# Altium schematic symbol library CMod5_1.SCHLIB: 236 symbols (part 4 of 5)
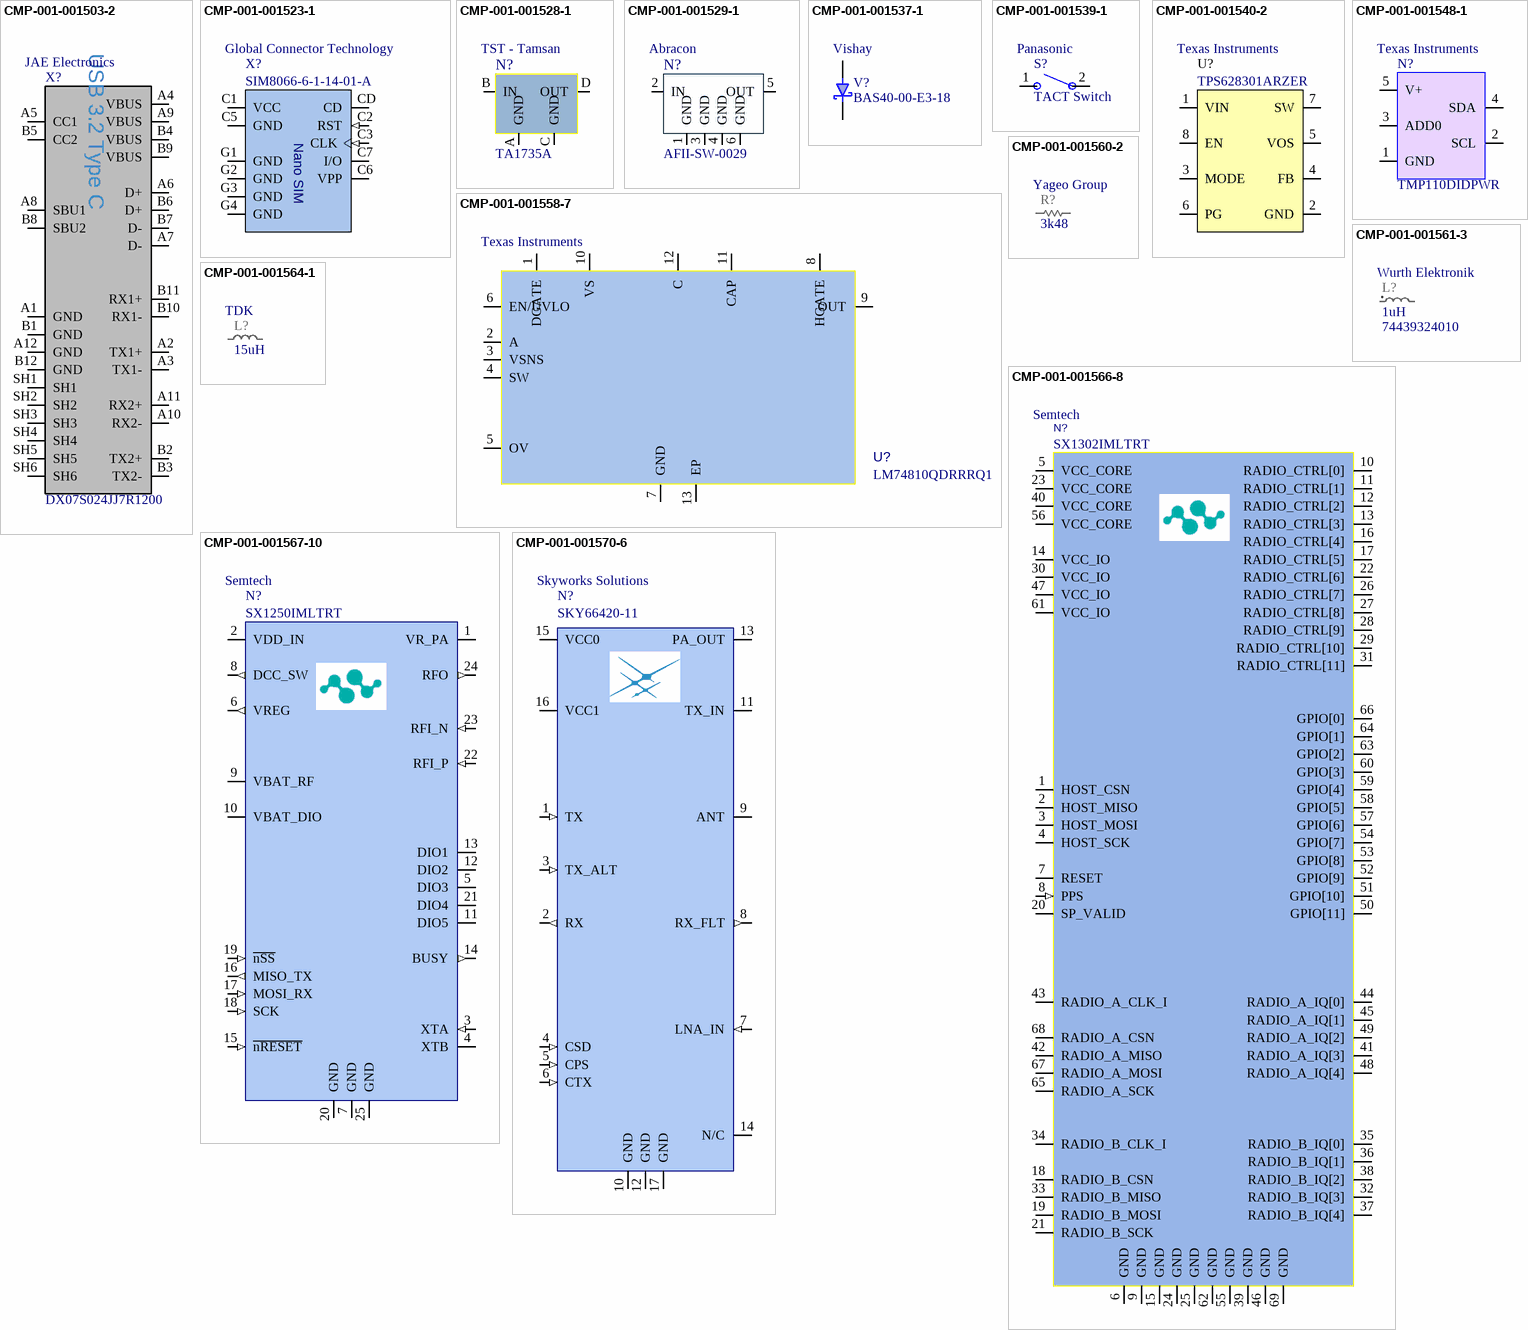
[diagram p15: symbols CMP-001-001503-2 to CMP-001-001570-6]

## CMP-001-001564-1
designator L?, comment value 15uH  Manufacturer: TDK  (hidden comment: IND_0805_15uH_MLZ2012M150WT000)
15µH Shielded Multilayer Inductor, Isat 120mA, Imax 250mA, 950mOhm, 0805; Tolerance: +/-20%; Sort order: 348; System: RLC; Dimensions WxLxH: 1.4x2.1x1.0mm; ComponentLink2Description: 2_Product page; ComponentLink1URL: https://product.tdk.com/en/system/files/dam/doc/product/inductor/inductor/smd/catalog/inductor_commercial_decoupling_mlz2012_en.pdf; Creation date: 20251006; ComponentLink1Description: 1_Datasheet; Part Number: MLZ2012M150WT000; Package: 0805; Operating temperature range: -55°C ~ 125°C; ClassName: BIG; ComponentLink3Description: 3_X-information; ComponentLink4Description: 4_X-information; Manufacturer Part Number: MLZ2012M150WT000; Component Type: Inductor
footprint IND_0805_UN1Q (Chip Inductor, 2.10x1.35mm, IPC High Density)
pins: 1, 2

## CMP-001-001566-8
designator N?, comment Part Number: SX1302IMLTRT  Manufacturer: Semtech  (hidden comment: SX1302)
SX1302 - LoRa Base Band Processor; System: RF; Sort order: 721; ClassName: BIG; ComponentLink3Description: 3_X-information; Operating temperature range: -40 ... +85C; Creation Date: 20251002; ComponentLink1URL: https://semtech.my.salesforce.com/sfc/p/#E0000000JelG/a/2R000000Hkyg/U8CIV3e9yI9T_aILFMxuzLNs_6_0Io1WIaksrNYyCMQ; ComponentLink2URL: https://www.semtech.com/products/wireless-rf/lora-core/sx1302; Manufacturer: SEMTECH; Package: VQFN-68; ComponentLink1Description: 1_Datasheet; ComponentLink4Description: 4_X-information; ComponentLink2Description: 2_Product page; Dimensions WxLxH: 7 mm x 7 mm x 0.75 mm; Manufacturer Part Number: SX1302IMLTRT; Component Type: RF IC
footprint SX1302_VQFN-68 (SX1302 - LoRa Base Band Processor, 7 mm x 7 mm x 0.75 mm)
pins: 1 HOST_CSN, 2 HOST_MISO, 3 HOST_MOSI, 4 HOST_SCK, 5 VCC_CORE (power), 6 GND (power), 7 RESET, 8 PPS (in), 9 GND, 10 RADIO_CTRL[0], 11 RADIO_CTRL[1], 12 RADIO_CTRL[2], 13 RADIO_CTRL[3], 14 VCC_IO (power), 15 GND (power), 16 RADIO_CTRL[4], 17 RADIO_CTRL[5], 18 RADIO_B_CSN, 19 RADIO_B_MOSI, 20 SP_VALID, 21 RADIO_B_SCK, 22 RADIO_CTRL[6], 23 VCC_CORE (power), 24 GND (power), 25 GND (power), 26 RADIO_CTRL[7], 27 RADIO_CTRL[8], 28 RADIO_CTRL[9], 29 RADIO_CTRL[10], 30 VCC_IO (power), 31 RADIO_CTRL[11], 32 RADIO_B_IQ[3], 33 RADIO_B_MISO, 34 RADIO_B_CLK_I, 35 RADIO_B_IQ[0], 36 RADIO_B_IQ[1], 37 RADIO_B_IQ[4], 38 RADIO_B_IQ[2], 39 GND (power), 40 VCC_CORE (power), 41 RADIO_A_IQ[3], 42 RADIO_A_MISO, 43 RADIO_A_CLK_I, 44 RADIO_A_IQ[0], 45 RADIO_A_IQ[1], 46 GND (power), 47 VCC_IO (power), 48 RADIO_A_IQ[4], 49 RADIO_A_IQ[2], 50 GPIO[11], 51 GPIO[10], 52 GPIO[9], 53 GPIO[8], 54 GPIO[7], 55 GND (power), 56 VCC_CORE (power), 57 GPIO[6], 58 GPIO[5], 59 GPIO[4], 60 GPIO[3], 61 VCC_IO (power), 62 GND (power), 63 GPIO[2], 64 GPIO[1], 65 RADIO_A_SCK, 66 GPIO[0], 67 RADIO_A_MOSI, 68 RADIO_A_CSN, 69 GND (power)

## CMP-001-001567-10
designator N?, comment Part Number: SX1250IMLTRT  Manufacturer: Semtech  (hidden comment: FEM-SX1250)
LoRa Core™ Multi-band Sub-GHz RF Front End; HasBeenBuilt: False; Sort order: 731; ComponentLink2URL: https://www.semtech.com/products/wireless-rf/lora-core/sx1250; Dimensions WxLxH: 4.0 x 4.0 x 0.9mm; Operating temperature range: -40C ... +85C; ComponentLink1Description: 1_Datasheet; System: RF; ComponentLink1URL: https://semtech.my.salesforce.com/sfc/p/#E0000000JelG/a/2R000000HTAF/wqCYqYPC0Z5rgGvER7_RtmlGeQhc31idv6bvSW4c_FQ; Manufacturer: SEMTECH; ComponentLink4Description: 4_X-information; ComponentLink3Description: 3_X-information; ComponentLink2Description: 2_Product page; Package: QFN-24; ClassName: BIG; Creation Date: 20251003; Manufacturer Part Number: SX1250IMLTRT; Component Type: RF IC
footprint FEM-SX12xx_QFN-24 (4.0 x 4.0 x 0.9mm)
pins: 1 VR_PA (power), 2 VDD_IN, 3 XTA (in), 4 XTB, 5 DIO3 (io), 6 VREG (out), 7 GND (power), 8 DCC_SW (out), 9 VBAT_RF (power), 10 VBAT_DIO (power), 11 DIO5 (io), 12 DIO2 (io), 13 DIO1 (io), 14 BUSY (out), 15 ~{nRESET} (in), 16 MISO_TX (out), 17 MOSI_RX (in), 18 SCK (in), 19 ~{nSS} (in), 20 GND (power), 21 DIO4 (io), 22 RFI_P (in), 23 RFI_N (in), 24 RFO (out), 25 GND (power)

## CMP-001-001570-6
designator N?, comment Part Number: SKY66420-11  Manufacturer: Skyworks Solutions  (hidden comment: FEM-SKY66420-11)
860MHz-930MHZ Front-End Module, +27dBM; Manufacturer: Skyworks; System: RF; Sort order: 731; ComponentLink1URL: https://d1ehax0mqsd4rz.cloudfront.net/-/media/SkyWorks/Documents/Products/2801-2900/SKY66420-11_204006I.pdf?rev=35057454984f4bd1903e4abc27f37b33; Creation Date: 251003; ComponentLink4Description: 4_X-information; Operating temperature range: -40C ... +85C; ComponentLink1Description: 1_Datasheet; ClassName: BIG; ComponentLink2Description: 2_Product page; ComponentLink2URL: https://www.skyworksinc.com/en/Products/Front-end-Modules/SKY66420-11; ComponentLink3Description: 3_X-information; Dimensions WxLxH: 3.0 x 3.0 x 0.75mm; Manufacturer Part Number: SKY66420-11; Component Type: RF Module
footprint FEM-SKY66420-11 (860MHz-930MHZ Front-End Module, +27dBM)
pins: 1 TX (in), 2 RX (out), 3 TX_ALT (in), 4 CSD (in), 5 CPS (in), 6 CTX (in), 7 LNA_IN (in), 8 RX_FLT (out), 9 ANT, 10 GND (power), 11 TX_IN, 12 GND (power), 13 PA_OUT, 14 N/C, 15 VCC0 (power), 16 VCC1 (power), 17 GND (power)

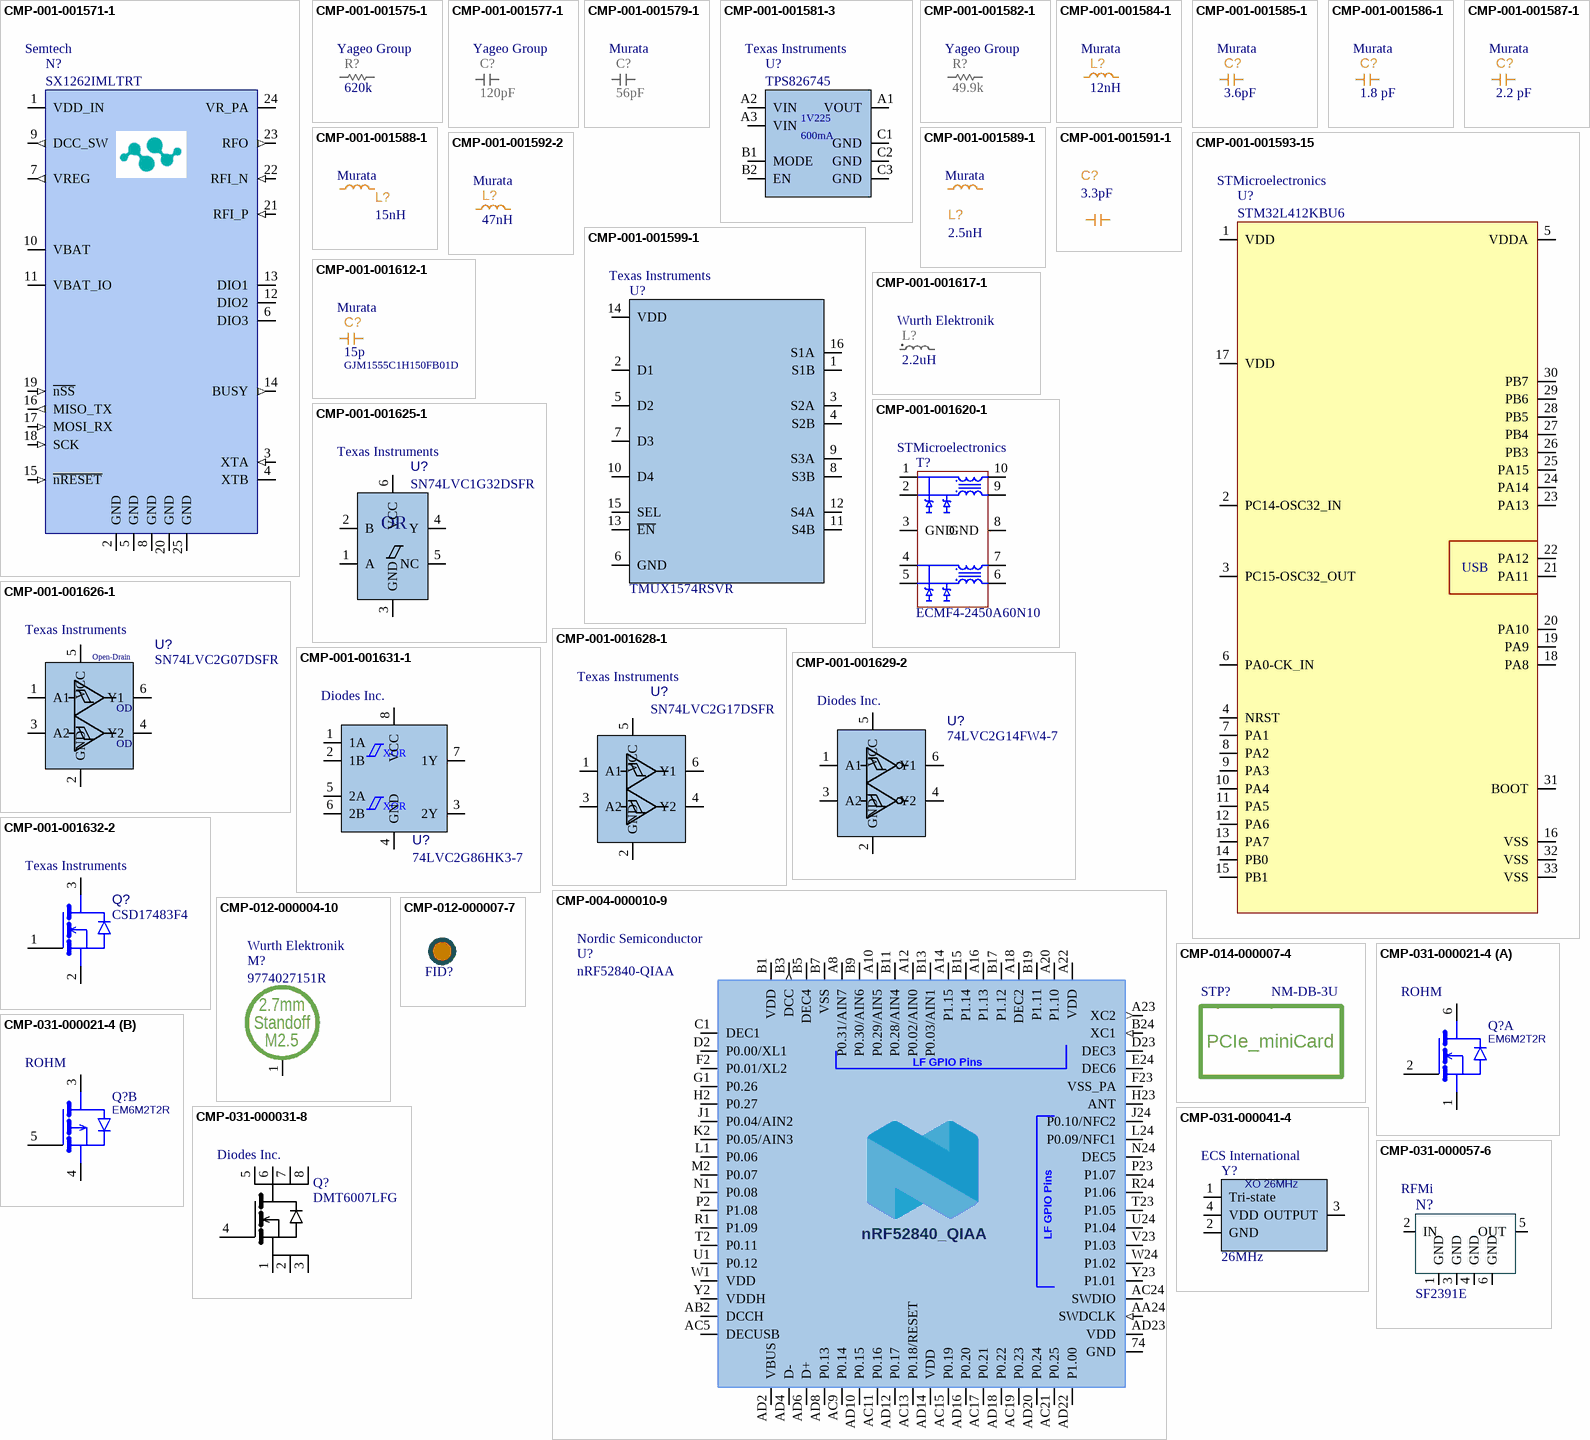
[diagram p10: symbols CMP-001-001571-1 to CMP-031-000057-6]

## CMP-001-001571-1
designator N?, comment Part Number: SX1262IMLTRT  Manufacturer: Semtech  (hidden comment: SX1262)
Sub-GHz RF RF transceiver, Low power, max +22dBm; HasBeenBuilt: False; Sort order: 731; ClassName: BIG; ComponentLink4Description: 4_X-information; ComponentLink1Description: 1_Datasheet; System: RF; ComponentLink3Description: 3_X-information; Dimensions WxLxH: 4.0 x 4.0 x 0.9mm; Manufacturer: SEMTECH; Operating temperature range: -40C ... +85C; Package: QFN-24; Creation Date: 20251007; ComponentLink2URL: https://www.semtech.com/products/wireless-rf/lora-connect/sx1261; ComponentLink2Description: 2_Product page; ComponentLink1URL: https://semtech.my.salesforce.com/sfc/p/#E0000000JelG/a/RQ000008n3pp/qXjWn19TZmb.1MgqPZ8Vrc5V7U.M_lOAIoTZHcEAeTI; Manufacturer Part Number: SX1262IMLTRT; Component Type: RF IC
footprint FEM-SX12xx_QFN-24 (4.0 x 4.0 x 0.9mm)
pins: 1 VDD_IN, 2 GND (power), 3 XTA (in), 4 XTB, 5 GND (power), 6 DIO3 (io), 7 VREG (out), 8 GND (power), 9 DCC_SW (out), 10 VBAT (power), 11 VBAT_IO (power), 12 DIO2 (io), 13 DIO1 (io), 14 BUSY (out), 15 ~{nRESET} (in), 16 MISO_TX (out), 17 MOSI_RX (in), 18 SCK (in), 19 ~{nSS} (in), 20 GND (power), 21 RFI_P (in), 22 RFI_N (in), 23 RFO (out), 24 VR_PA (power), 25 GND (power)

## CMP-001-001575-1
designator R?, comment value 620k  Manufacturer: Yageo Group  (hidden comment: RES_0201_620k)
RES; Manufacturer: YAGEO; Part Number: RC0201FR-07620KL; Sort order: 322; System: RLC; Tolerance: 1%; HasBeenBuilt: TBD; Alternative component: Allowed; Power Rating: 1/20W; ComponentLink1Description: 1_Datasheet; ClassName: SMALL; ComponentLink2Description: 2_Product page; Creation date: 20251021; Package: 0201; ComponentLink4Description: 4_X-information; ComponentLink3Description: 3_X-information; Manufacturer Part Number: RC0201FR-07620KL; Component Type: Resistor
footprint RES_0201_UN1Q (Chip Resistor, 0.6x0.3mm)
pins: 1, 2

## CMP-001-001577-1
designator C?, comment 120pF  Manufacturer: Yageo Group
CAP; Part Number: CC0201KRX7R9BB121; Manufacturer: YAGEO; HasBeenBuilt: TBD; Alternative component: Allowed; System: RLC; Voltage: 50V; Temperature characteristics: X7R; Tolerance: +/-10%; Sort order: 302; Dimensions WxLxH: 0.3 x 0.6 x 0.3; ComponentLink2Description: 2_Product page; Operating temperature range: -55 ... +125C; ComponentLink1Description: 1_Datasheet; ClassName: SMALL; ComponentLink3Description: 3_X-information; Package: 0201; ECCN: EAR99; ComponentLink4Description: 4_X-information; Value: 120pF; Creation date: 20251013; Manufacturer Part Number: CC0201KRX7R9BB121; Component Type: Capacitor
footprint CAP_0201_UN1Q (Chip Capacitor 0201)
pins: 1, 2

## CMP-001-001579-1
designator C?, comment 56pF  Manufacturer: Murata
CAP; Part Number: GRM0335C1H560JA01D; Tolerance: +/-5%; Temperature characteristics: C0G; Sort order: 302; System: RLC; Alternative component: Allowed; HasBeenBuilt: TBD; Voltage: 50V; ComponentLink4Description: 4_X-information; ClassName: SMALL; Package: 0201; ECCN: EAR99; ComponentLink2Description: 2_Product page; ComponentLink3Description: 3_X-information; ComponentLink1Description: 1_Datasheet; Creation date: 20251013; Value: 56pF; Manufacturer Part Number: GRM0335C1H560JA01D; Component Type: Capacitor
footprint CAP_0201_UN1Q (Chip Capacitor 0201)
pins: 1, 2

## CMP-001-001581-3
designator U?, comment TPS826745  Manufacturer: Texas Instruments
Step-Down Converter 1.225V 0.6A; Part Number: TPS826745SIPR; System: IC; Sort order: 451; Package: BGA8_SIP0008A_TI; ComponentLink1URL: https://www.ti.com/lit/gpn/tps82677; Dimensions WxLxH: 2.95 x 2.35 x 1.0 mm; ComponentLink1Description: 1_Datasheet; ComponentLink4Description: 4_X-information; RoHS: RoHS 3; Creation date: 20251014; ECCN: EAR99; Operating temperature range: -40 .... +85 °C; ComponentLink2Description: 2_Product page; ComponentLink3Description: 3_X-information; ComponentLink2URL: https://www.ti.com/product/TPS82677; Manufacturer Part Number: TPS826745SIPR; Component Type: Power Supply
footprint BGA8_SIP0008A_TI (BGA8 pin, Pitch 0.8)
pins: A1 VOUT, A2 VIN, A3 VIN, B1 MODE, B2 EN, C1 GND, C2 GND, C3 GND
text: 1V225; 600mA

## CMP-001-001582-1
designator R?, comment 49.9k  Manufacturer: Yageo Group
RES; Part Number: RC0201FR-0749K9L; Manufacturer: Yageo; Sort order: 322; Tolerance: 1%; Power Rating: 1/20W; HasBeenBuilt: TBD; System: RLC; ComponentLink2Description: 2_Product page; ClassName: SMALL; ECCN: EAR99; Package: 0201; Source: RLC_UN1Q.SchLib; ComponentLink1Description: 1_Datasheet; ComponentLink3Description: 3_X-information; Value: 49.9k; ComponentLink4Description: 4_X-information; Creation date: 20251014; Manufacturer Part Number: RC0201FR-0749K9L; Component Type: Resistor
footprint RES_0201_UN1Q (Chip Resistor, 0.6x0.3mm)
pins: 1, 2

## CMP-001-001584-1
designator L?, comment value 12nH  Manufacturer: Murata  (hidden comment: IND_0402_12n_WIREWOUND_RF_MATCHING)
IND_RF_MATCHING, WIREWOUND; Part Number: LQW15AN12NH00D; Tolerance: 3%; Sort order: 206; System: RLC; Remark: RF matching, use part number; HasBeenBuilt: TBD; Dimensions WxLxH: 0.6 x 1 x 0.6 mm; ComponentLink1Description: 1_Datasheet; ComponentLink4Description: 4_X-information; ComponentLink3Description: 3_X-information; Creation date: 20251014; Operating temperature range: -55 ... +125C; Source: RLC_UN1Q.SchLib; RoHS: RoHS3; ComponentLink2Description: 2_Product page; Package: 0402; ComponentLink1URL: https://www.murata.com/en-global/products/productdetail?partno=LQW15AN15NG00%23; ECCN: EAR99; ClassName: SMALL; Manufacturer Part Number: LQW15AN12NH00D; Component Type: Inductor
footprint IND_0402_UN1Q (Chip Resistor, 1.0x0.5mm)
pins: 1, 2

## CMP-001-001585-1
designator C?, comment value 3.6pF  Manufacturer: Murata  (hidden comment: CAP_0201_3p6_RF_MATCHING)
CAP_RF_MATCHING; Part Number: GJM0335C1H3R6WB01; Manufacturer Part Number: GJM0335C1H3R6WB01D; Tolerance: +/- 0.1 pF; Remark: RF matching, use part number; HasBeenBuilt: TBD; System: RLC; Sort order: 202; Temperature characteristics: C0G; Voltage: 50V; ComponentLink4Description: 4_X-information; Creation date: 20251014; ECCN: EAR99; Package: 0201; ComponentLink3Description: 3_X-information; RoHS: RoHS 3; Source: RLC_UN1Q.SchLib; ComponentLink2Description: 2_Product page; Operating temperature range: -55 ... +125C; ComponentLink1URL: https://pim.murata.com/en-global/pim/details/?partNum=GJM0335C1H3R9BB01%23; ComponentLink1Description: 1_Datasheet; ClassName: SMALL; Component Type: Capacitor
footprint CAP_0201_UN1Q (Chip Capacitor 0201)
pins: 1, 2

## CMP-001-001586-1
designator C?, comment value 1.8 pF  Manufacturer: Murata  (hidden comment: CAP_0201_1p8_GJM_RF_MATCHING)
CAP_RF_MATCHING; Part Number: GJM0335C1H1R8WB01; Manufacturer Part Number: GJM0335C1H1R8WB01D; Tolerance: +/-0.05pF; Remark: RF matching, use part number; System: RLC; Sort order: 202; Temperature characteristics: C0G; Voltage: 50V; ComponentLink4Description: 4_X-information; Creation date: 20251014; ECCN: EAR99; Package: 0201; ComponentLink3Description: 3_X-information; RoHS: RoHs 3; ComponentLink2Description: 2_Product page; Operating temperature range: -55 ... +125C; ComponentLink1URL: https://pim.murata.com/en-us/pim/details/?partNum=GJM0335C1H1R8WB01%23; ComponentLink1Description: 1_Datasheet; ClassName: SMALL; Component Type: Capacitor
footprint CAP_0201_UN1Q (Chip Capacitor 0201)
pins: 1, 2

## CMP-001-001587-1
designator C?, comment value 2.2 pF  Manufacturer: Murata  (hidden comment: CAP_0201_2p2_GJM_RF_MATCHING)
CAP_RF_MATCHING; Part Number: GJM0335C1H2R2WB01; Manufacturer Part Number: GJM0335C1H2R2WB01D; Tolerance: +/-0.05pF; Remark: RF matching, use part number; System: RLC; Sort order: 202; Temperature characteristics: C0G; Voltage: 50V; ComponentLink4Description: 4_X-information; Creation date: 20251014; ECCN: EAR99; Package: 0201; ComponentLink3Description: 3_X-information; RoHS: RoHs 3; ComponentLink2Description: 2_Product page; Operating temperature range: -55 ... +125C; ComponentLink1URL: https://pim.murata.com/en-eu/pim/details/?partNum=GJM0335C1H2R2WB01%23; ComponentLink1Description: 1_Datasheet; ClassName: SMALL; Component Type: Capacitor
footprint CAP_0201_UN1Q (Chip Capacitor 0201)
pins: 1, 2

## CMP-001-001588-1
designator L?, comment value 15nH  Manufacturer: Murata  (hidden comment: IND_0402_15n_WIREWOUND_RF_MATCHING)
IND_RF_MATCHING, WIREWOUND; Part Number: LQW15AN15NH00D; Tolerance: 3%; Sort order: 206; System: RLC; Remark: RF matching, use part number; HasBeenBuilt: TBD; Dimensions WxLxH: 0.6 x 1 x 0.6 mm; ComponentLink1Description: 1_Datasheet; ComponentLink4Description: 4_X-information; ComponentLink3Description: 3_X-information; Creation date: 20251014; Operating temperature range: -55 ... +125C; Source: RLC_UN1Q.SchLib; RoHS: RoHS3; ComponentLink2Description: 2_Product page; Package: 0402; ComponentLink1URL: https://www.murata.com/en-global/products/productdetail?partno=LQW15AN15NG00%23; ECCN: EAR99; ClassName: SMALL; Manufacturer Part Number: LQW15AN15NH00D; Component Type: Inductor
footprint IND_0402_UN1Q (Chip Resistor, 1.0x0.5mm)
pins: 1, 2

## CMP-001-001589-1
designator L?, comment value 2.5nH  Manufacturer: Murata  (hidden comment: IND_0402_2n5_WIREWOUND_RF_MATCHING)
IND_RF_MATCHING, WIREWOUND; Part Number: LQW15AN2N5C00D; Tolerance: +/- 0.2nH; Sort order: 206; System: RLC; Remark: RF matching, use part number; ComponentLink1Description: 1_Datasheet; ComponentLink4Description: 4_X-information; ComponentLink3Description: 3_X-information; Creation date: 20251014; Operating temperature range: -55 ... +125C; RoHS: RoHS3; ComponentLink2Description: 2_Product page; Package: 0402; ComponentLink1URL: https://www.mouser.fi/datasheet/2/281/1/JELF243A_9138-1699493.pdf; ClassName: SMALL; Manufacturer Part Number: LQW15AN2N5C00D; Component Type: Inductor
footprint IND_0402_UN1Q (Chip Resistor, 1.0x0.5mm)
pins: 1, 2

## CMP-001-001591-1
designator C?, comment value 3.3pF  (hidden comment: CAP_0201_3p3_RF_MATCHING)
CAP_RF_MATCHING; Manufacturer: Murata; Part Number: GJM0335C1H3R3WB01; Tolerance: +/- 0.1 pF; Remark: RF matching, use part number; HasBeenBuilt: TBD; System: RLC; Sort order: 202; Temperature characteristics: C0G; Voltage: 50V; ComponentLink4Description: 4_X-information; Creation date: 20251014; ECCN: EAR99; Package: 0201; ComponentLink3Description: 3_X-information; RoHS: RoHS 3; ComponentLink2Description: 2_Product page; Operating temperature range: -55 ... +125C; ComponentLink1URL: https://pim.murata.com/en-eu/pim/details/?partNum=GJM0335C1H3R3WB01%23; ComponentLink1Description: 1_Datasheet; ClassName: SMALL; Component Type: Capacitor
footprint CAP_0201_UN1Q (Chip Capacitor 0201)
pins: 1, 2

## CMP-001-001592-2
designator L?, comment value 47nH  Manufacturer: Murata  (hidden comment: IND_0402_47n_WIREWOUND_RF_MATCHING)
IND_RF_MATCHING, WIREWOUND; Part Number: LQW15AN47NJ00D; Tolerance: +/- 5%; Sort order: 206; System: RLC; Remark: RF matching, use part number; ComponentLink1Description: 1_Datasheet; ComponentLink4Description: 4_X-information; ComponentLink3Description: 3_X-information; Creation date: 20251014; Operating temperature range: -55 ... +125C; RoHS: RoHS3; ComponentLink2Description: 2_Product page; Package: 0402; ComponentLink1URL: https://pim.murata.com/en-eu/pim/details/?partNum=LQW15AN47NJ00%23; ECCN: EAR99; ClassName: SMALL; Manufacturer Part Number: LQW15AN47NJ00D; Component Type: Inductor
footprint IND_0402_UN1Q (Chip Resistor, 1.0x0.5mm)
pins: 1, 2

## CMP-001-001593-15
designator U?, comment STM32L412KBU6  Manufacturer: STMicroelectronics
ARM® Cortex®-M4 STM32L4 Microcontroller IC 32-Bit 80MHz 128KB (128K x 8) FLASH 32-UFQFPN (5x5); Manufacturer: ST Microelectronics; Sort order: 501; ComponentLink3Description: 3_X-information; ComponentLink1Description: 1_Datasheet; ComponentLink4Description: 4_X-information; ECCN: 3A991A2; ComponentLink2URL: https://www.st.com/en/microcontrollers-microprocessors/stm32l412kb.html; System: IC; ComponentLink1URL: https://www.st.com/resource/en/datasheet/stm32l412kb.pdf; Creation date: 20251015; RoHS: RoHS 3; ClassName: BIG; ComponentLink2Description: 2_Product page; Dimensions WxLxH: 5 x 5 x TBD; Package: UFQFPN32; Part Number: STM32L412KBU6; Manufacturer Part Number: STM32L412KBU6; Component Type: Processor
footprint STM32L_UFQFPN32_5x5
pins: 1 VDD, 2 PC14-OSC32_IN, 3 PC15-OSC32_OUT, 4 NRST, 5 VDDA, 6 PA0-CK_IN, 7 PA1, 8 PA2, 9 PA3, 10 PA4, 11 PA5, 12 PA6, 13 PA7, 14 PB0, 15 PB1, 16 VSS, 17 VDD, 18 PA8, 19 PA9, 20 PA10, 21 PA11, 22 PA12, 23 PA13, 24 PA14, 25 PA15, 26 PB3, 27 PB4, 28 PB5, 29 PB6, 30 PB7, 31 BOOT, 32 VSS, 33 VSS
text: USB

## CMP-001-001599-1
designator U?, comment Manufacturer: Texas Instruments  (hidden comment: TMUX1574RSVR)
4-Channel 2:1 SPDT MUX, BW 2GHz, SPI, UART, 1.5V to 5.5V; Manufacturer: TI; System: IC; Sort order: 501; Alternative component: TMUX1574T8RSVR; Part Number: TMUX1574RSVR; ComponentLink4Description: 4_X-information; Creation date: 20251017; Dimensions WxLxH: 2.6 x 1.8 x 0.55mm; ComponentLink3Description: 3_EVA kit; ComponentLink2URL: https://www.ti.com/product/TMUX1574?qgpn=tmux1574#order-quality; Package: UQFN-16; ComponentLink1Description: 1_Datasheet; ComponentLink2Description: 2_Product page; ComponentLink1URL: https://www.ti.com/lit/ds/symlink/tmux1574.pdf?ts=1760616995645&ref_url=https%253A%252F%252Fwww.ti.com%252Fproduct%252FTMUX1574; Operating temperature range: -40°C ~ 125°C (TA); Manufacturer Part Number: TMUX1574RSVR; Component Type: Logic
footprint UQFN-16_TMUX1574RSVR (UQFN-16)
pins: 1 S1B, 2 D1, 3 S2A, 4 S2B, 5 D2, 6 GND, 7 D3, 8 S3B, 9 S3A, 10 D4, 11 S4B, 12 S4A, 13 ~{EN}, 14 VDD, 15 SEL, 16 S1A

## CMP-001-001612-1
designator C?, comment value 15p  Part Number: GJM1555C1H150FB01D  Manufacturer: Murata  (hidden comment: CAP_0402_15p_RF_MATCHING)
CAP_RF_MATCHING; Sort order: 202; Tolerance: +/-1%; Temperature characteristics: C0G; System: RLC; HasBeenBuilt: TBD; Voltage: 50V; Remark: RF matching, use part number; ComponentLink4Description: 4_X-information; Creation date: 20251027; Package: 0402; ComponentLink2Description: 2_Product page; ComponentLink3Description: 3_X-information; ComponentLink1Description: 1_Datasheet; ClassName: SMALL; Manufacturer Part Number: GJM1555C1H150FB01D; Component Type: Capacitor
footprint CAP_0402_UN1Q (Chip Capacitor 0402)
pins: 1, 2

## CMP-001-001617-1
designator L?, comment value 2.2uH  Manufacturer: Wurth Elektronik  (hidden comment: IND_74479335329222_2u2)
IND, Low DCR, shielded.; Manufacturer: Wurth; Manufacturer Part Number: 74439334047; Sort order: 348; System: RLC; Package: 353220; Dimensions WxLxH: 3.5 x 3.2 x 2.0mm; Part Number: 74479335329222; ComponentLink1Description: 1_Datasheet; ComponentLink1URL: https://www.we-online.com/components/products/datasheet/74479335329222.pdf; ComponentLink2Description: 2_Product_page; ComponentLink2URL: https://www.we-online.com/en/components/products/WE-PMFI#74479335329222; Creation date: 20251029; Operating temperature range: -55°C ~ 150°C; ClassName: BIG; ComponentLink3Description: 3_X-information; ComponentLink4Description: 4_X-information; Component Type: Inductor
footprint IND_74479335329222_353220 (3.5 x 3.2 x 2.0mm)
pins: 1, 2

## CMP-001-001620-1
designator T?, comment Part Number: ECMF4-2450A60N10  Manufacturer: STMicroelectronics  (hidden comment: EMI_ESD_ECMF4-2450A60N10)
EMI Filter with ESD, 2x differential pair; System: Discrete; Sort order: 441; ComponentLink3Description: 3_X-information; Operating temperature range: -55°C ~ 125°C; Package: 10-XFDFN; ComponentLink1URL: https://www.st.com/resource/en/datasheet/ecmf4-2450a60n10.pdf; ComponentLink2Description: 2_Product page; Creation date: 20251103; ComponentLink2URL: https://www.st.com/en/protections-and-emi-filters/common-mode-filters-with-integrated-esd-protection-ecmf.html; ComponentLink1Description: 1_Datasheet; ComponentLink4Description: 4_X-information; Dimensions WxLxH: 2.20 x 1.35 x 0.50mm; Manufacturer Part Number: ECMF4-2450A60N10; Component Type: ESD & EMI
footprint ECMF4-2450A60N10
pins: 1 D1+, 2 D1-, 3 GND, 4 D2+, 5 D2-, 6 D2-_IC, 7 D2+_IC, 8 GND, 9 D1-_IC, 10 D1+_IC

## CMP-001-001625-1
designator U?, comment Manufacturer: Texas Instruments  (hidden comment: SN74LVC1G32DSFR)
Single 2-input OR gate , Schmitt-Trigger, CMOS.; Manufacturer: TI; Remark: Layout symbol = 74LVC1G32GS,132; Alternative component: 74LVC1G32GS,132; Sort order: 446; System: IC; ComponentLink2URL: https://www.ti.com/product/SN74LVC1G32?dcmp=dsproject&hqs=td&#doctype2; Dimensions WxLxH: 1.0 mm x 1.0 mm x 0.35mm; Operating temperature range: -40C ... +125C; ComponentLink1URL: https://www.ti.com/lit/ds/symlink/sn74lvc1g32.pdf?ts=1762178942135&ref_url=https%253A%252F%252Fwww.ti.com%252Fproduct%252FSN65DPHY440SS; Package: 6-SON (1x1), 6-XFDFN; ComponentLink1Description: 1_Datasheet; Part Number: SN74LVC1G32DSFR; ComponentLink2Description: 2_Product page; ComponentLink3Description: 3_X-information; ComponentLink4Description: 4_X-information; Creation date: 20251104; Manufacturer Part Number: SN74LVC1G32DSFR; Component Type: Logic
footprint XSON6_SOT1202_Nexperia
pins: 1 A, 2 B, 3 GND, 4 Y, 5 NC, 6 VCC (power)
text: OR

## CMP-001-001626-1
designator U?, comment Manufacturer: Texas Instruments  (hidden comment: SN74LVC2G07DSFR)
Dual buffer with open-drain outputs , Schmitt-Trigger, CMOS.; Manufacturer: TI; Alternative component: 74LVC2G07GS,132; Remark: Layout symbol = 74LVC2G07GS,132; Sort order: 446; System: IC; ComponentLink1Description: 1_Datasheet; ComponentLink1URL: https://www.ti.com/lit/ds/sces308l/sces308l.pdf; ComponentLink2Description: 2_Product page; ComponentLink2URL: https://www.ti.com/product/SN74LVC2G07?dcmp=dsproject&hqs=td&#doctype2; ComponentLink3Description: 3_X-information; ComponentLink4Description: 4_X-information; Creation date: 20251104; Dimensions WxLxH: 1.0 mm x 1.0 mm x 0.35mm; Operating temperature range: -40C ... +125C; Package: 6-SON (1x1), 6-XFDFN; Part Number: SN74LVC2G07DSFR; Manufacturer Part Number: SN74LVC2G07DSFR; Component Type: Logic
footprint XSON6_SOT1202_Nexperia
pins: 1 A1, 2 GND, 3 A2, 4 Y2, 5 VCC (power), 6 Y1
text: Open-Drain; OD

## CMP-001-001628-1
designator U?, comment Manufacturer: Texas Instruments  (hidden comment: SN74LVC2G17DSFR)
Non-inverting, Schmitt-Trigger, CMOS.; Manufacturer: TI; Alternative component: 74LVC2G17GS; Remark: Layout symbol = 74LVC2G17GS; Sort order: 446; System: IC; ComponentLink1Description: 1_Datasheet; ComponentLink1URL: https://www.ti.com/lit/ds/symlink/sn74lvc2g17.pdf?ts=1762256307204&ref_url=https%253A%252F%252Fwww.ti.com%252Fproduct%252FSN74LVC2G17%253Fdcmp%253Ddsproject%2526hqs%253Dtd%2526; ComponentLink2Description: 2_Product page; ComponentLink2URL: https://www.ti.com/product/SN74LVC2G17?dcmp=dsproject&hqs=td&#doctype2; ComponentLink3Description: 3_X-information; ComponentLink4Description: 4_X-information; Creation date: 20251104; Dimensions WxLxH: 1.0 mm x 1.0 mm x 0.35mm; Operating temperature range: -40C ... +125C; Package: 6-SON (1x1), 6-XFDFN; Part Number: SN74LVC2G17DSFR; Manufacturer Part Number: SN74LVC2G17DSFR; Component Type: Logic
footprint XSON6_SOT1202_Nexperia
pins: 1 A1, 2 GND, 3 A2, 4 Y2, 5 VCC (power), 6 Y1

## CMP-001-001629-2
designator U?, comment Manufacturer: Diodes Inc.  (hidden comment: 74LVC2G14FW4-7)
Inverter, Schmitt-Trigger, CMOS.; Alternative component: 74LVC2G14GS,132; Remark: Layout symbol = 74LVC2G14GS,132; Sort order: 446; System: IC; ComponentLink1Description: 1_Datasheet; ComponentLink1URL: https://www.diodes.com/assets/Datasheets/74LVC2G14.pdf; ComponentLink2Description: 2_Product page; ComponentLink2URL: https://www.diodes.com/part/view/74LVC2G14; ComponentLink3Description: 3_X-information; ComponentLink4Description: 4_X-information; Creation date: 20240306; Dimensions WxLxH: 1.0 x 1.0 x 0.35 mm; Operating temperature range: -40C ... +125C; Package: X2-DFN1010-6; Part Number: 74LVC2G14FW4-7; Manufacturer Part Number: 74LVC2G14FW4-7; Component Type: Logic
footprint XSON6_SOT1202_Nexperia
pins: 1 A1, 2 GND, 3 A2, 4 Y2, 5 VCC (power), 6 Y1

## CMP-001-001631-1
designator U?, comment Manufacturer: Diodes Inc.  (hidden comment: 74LVC2G86HK3-7)
XOR, Schmitt-Trigger, 2ch, CMOS; Sort order: 446; Alternative component: 74LVC2G86GS,115; Remark: Layout symbol = 74LVC2G86GS,115; System: IC; Part Number: 74LVC2G86HK3-7; ComponentLink2URL: https://www.diodes.com/part/view/74LVC2G86; ComponentLink2Description: 2_Product page; Operating temperature range: -40C ... +125C; ComponentLink3Description: 3_Package; Creation date: 20251104; ComponentLink4Description: 4_X-information; Package: X2-DFN1410-8; ComponentLink1Description: 1_Datasheet; ComponentLink1URL: https://www.diodes.com/assets/Datasheets/74LVC2G86.pdf; Dimensions WxLxH: 1.0 mm x 1.35 mm x 0.35mm; Manufacturer Part Number: 74LVC2G86HK3-7; Component Type: Logic
footprint XSON8_SOT1203_Nexperia
pins: 1 1A, 2 1B, 3 2Y, 4 GND, 5 2A, 6 2B, 7 1Y, 8 VCC (power)
text: XOR

## CMP-001-001632-2
designator Q?, comment Manufacturer: Texas Instruments  (hidden comment: CSD17483F4)
NMOS Transistor, 30V, 1.5A, 260mOhm; Manufacturer: TI; Sort order: 447; System: Discrete; Part Number: CSD17483F4; ComponentLink1Description: 1_Datasheet; ComponentLink1URL: https://www.ti.com/lit/ds/symlink/csd17483f4.pdf?ts=1762205176105; ComponentLink2Description: 2_Product page; ComponentLink2URL: https://www.ti.com/product/CSD17483F4?keyMatch=CSD17483F4&tisearch=universal_search; ComponentLink3Description: 3_X-information; ComponentLink4Description: 4_X-information; Creation date: 20251104; Dimensions WxLxH: 1.0 × 0.6 × 0.36 mm; Operating temperature range: -55 ... +150 °C; Package: 3-XFDFN, 3-PICOSTAR; ClassName: SMALL; Manufacturer Part Number: CSD17483F4; Component Type: Transistor
footprint 3-PICOSTAR_TI (1.0 × 0.6 × 0.36 mm ,3-XFDFN, 3-PICOSTAR)
pins: 1 G, 2 S, 3 D

## CMP-004-000010-9
designator U?, comment Manufacturer: Nordic Semiconductor  (hidden comment: nRF52840-QIAA)
Multi-protocol Bluetooth Low Energy, IEEE 802.15.4, ANT and 2.4GHz; Manufacturer Part Number: NRF52840-QIAA-R7; HasBeenBuilt: SleeveIO_01; Sort order: 721; System: RF; ClassName: BIG; Part Number: nRF52840-QIAA; ComponentLink1Description: 1_Datasheet; ComponentLink1URL: https://www.nordicsemi.com/Products/nRF52840; ComponentLink2Description: 2_Product page; ComponentLink3Description: 3_X-information; ComponentLink4Description: 4_X-information; Creation Date: 20210217; Package: AQFN-73; Source: RF_Components_UN1Q.SchLib; Design Item ID: nRF52840_QIAA; ECCN: 5A992.C; Component Type: RF IC
footprint NRF52840_AQFN50P_700X700X85 (AQFN50P 7x7 mm)
pins: 74 GND (power), A8 P0.31/AIN7 (io), A10 P0.29/AIN5 (io), A12 P0.02/AIN0 (io), A14 P1.15 (io), A16 P1.13 (io), A18 DEC2 (power), A20 P1.10 (io), A22 VDD (power), A23 XC2 (out), AA24 SWDCLK (in), AB2 DCCH (power), AC5 DECUSB (power), AC9 P0.14 (io), AC11 P0.16 (io), AC13 P0.18/RESET (io), AC15 P0.19 (io), AC17 P0.21 (io), AC19 P0.23 (io), AC21 P0.25 (io), AC24 SWDIO (io), AD2 VBUS (power), AD4 D- (io), AD6 D+ (io), AD8 P0.13 (io), AD10 P0.15 (io), AD12 P0.17 (io), AD14 VDD (power), AD16 P0.20 (io), AD18 P0.22 (io), AD20 P0.24 (io), AD22 P1.00 (io), AD23 VDD (power), B1 VDD (power), B3 DCC (out), B5 DEC4 (power), B7 VSS (power), B9 P0.30/AIN6 (io), B11 P0.28/AIN4 (io), B13 P0.03/AIN1 (io), B15 P1.14 (io), B17 P1.12 (io), B19 P1.11 (io), B24 XC1 (in), C1 DEC1 (power), D2 P0.00/XL1 (io), D23 DEC3 (power), E24 DEC6 (power), F2 P0.01/XL2 (io), F23 VSS_PA (power), G1 P0.26 (io), H2 P0.27 (io), H23 ANT (io), J1 P0.04/AIN2 (io), J24 P0.10/NFC2 (io), K2 P0.05/AIN3 (io), L1 P0.06 (io), L24 P0.09/NFC1 (io), M2 P0.07 (io), N1 P0.08 (io), N24 DEC5 (power), P2 P1.08 (io), P23 P1.07 (io), R1 P1.09 (io), R24 P1.06 (io), T2 P0.11 (io), T23 P1.05 (io), U1 P0.12 (io), U24 P1.04 (io), V23 P1.03 (io), W1 VDD (power), W24 P1.02 (io), Y2 VDDH (power), Y23 P1.01 (io)
text: LF GPIO Pins

## CMP-012-000004-10
designator M?, comment Part Number: 9774027151R  Manufacturer: Wurth Elektronik  (hidden comment: Standoff_2_7mm_M25_WURTH)
Standoff 2.7 mm M2.5 Hole 3.7 mm; Manufacturer: WURTH; Sort order: 101; HasBeenBuilt: Saluki3; ComponentLink1Description: 1_Datasheet; ComponentLink1URL: https://www.we-online.com/components/products/datasheet/9774027151R.pdf; Creation date: 20230621; Dimensions WxLxH: M2.5 5.1x4.0mm; ComponentLink2Description: 2_Product page; ComponentLink2URL: https://www.we-online.com/catalog/en/SMSI_SMT_STEEL_SPACER_M2_5_THREAD_INTERNAL; ComponentLink3Description: 3_X-information; ComponentLink4Description: 4_X-information; System: Standoff; ECCN: EAR99; Source: EMECH_UN1Q.SchLib; Design Item ID: Standoff_2_7mm_M25_WURTH; RoHS: RoHS3 with ex; Manufacturer Part Number: 9774027151R; Component Type: Standoff
footprint Standoff_2_7mm_M25_WURTH (Standoff 2.7 mm M2.5  Hole 3.7 mm)
pins: 1
text: 2.7mm; M2.5

## CMP-012-000007-7
designator FID?, comment Fiducial  (value not drawn)
Fiducial 0.98 mm; HasBeenBuilt: True; System: EMECH; Sort order: -; ComponentLink1Description: 1_Datasheet; ComponentLink2Description: 2_Product page; ComponentLink3Description: 3_X-information; Creation date: 20200101; ComponentLink4Description: 3_X-information; Part Number: Fiducial; Source: EMECH_UN1Q.SchLib; Design Item ID: Fiducial; Component Type: EMECH
footprint Fiducial (Fiducial 0.98 mm)

## CMP-014-000007-4
designator STP?, comment Part Number: NM-DB-3U  (hidden comment: PCIe_miniCard)  (no BOM)
Manufacturer: Doodle Labs; Sort order: 999; Remark: STEP; System: EMECH; ComponentLink1Description: 1_Datasheet; ComponentLink1URL: https://doodlelabs.com/wp-content/uploads/Doodle-Labs-NM-DB-3-Data-Sheet.pdf; ComponentLink2Description: 2_Product page; ComponentLink3Description: 3_X-information; ComponentLink4Description: 4_X-information; Design Item ID: PCIe_miniCard; Source: EMECH_UN1Q.SchLib; ClassName: STEP; Component Type: STEP Model
footprint PCIe_miniCard

## CMP-031-000021-4
designator Q?, comment Manufacturer: ROHM  (hidden comment: EM6M2T2R)
Dual Nch + Pch MOSFET 20V 200mA; Sort order: 501; HasBeenBuilt: CCB30_1; Remark: MFG package EMT6; System: IC; Part Number: EM6M2T2R; ClassName: BIG; ComponentLink1Description: 1_Datasheet; ComponentLink1URL: https://fscdn.rohm.com/en/products/databook/datasheet/discrete/transistor/mosfet/em6m2t2r-e.pdf; ComponentLink2Description: 2_Product page; ComponentLink3Description: 3_X-information; ComponentLink4Description: 4_X-information; Creation date: 20230614; Dimensions WxLxH: 1.6 x 1.6 x 0.5mm; Operating temperature range: -55 ... +155 °C; Package: SOT-563, SOT-666; Source: UUDET_KOMPONENTIT.SchLib; Manufacturer Part Number: EM6M2T2R; Component Type: Transistor
footprint SOT-563 (SOT-563, SOT-666, EMT6)
part A pins: 1 S, 2 G, 6 D
part B pins: 3 D, 4 S, 5 G

## CMP-031-000031-8
designator Q?, comment Manufacturer: Diodes Inc.  (hidden comment: DMT6007LFG)
60V 70A N-channel enhancement mode MOSFET; Manufacturer: Diodes Inc; Manufacturer Part Number: DMT6007LFG-7; System: Discrete; HasBeenBuilt: Saluki3_HW_SB_2; Sort order: 447; ComponentLink4Description: 4_X-information; Source: UUDET_KOMPONENTIT.SchLib; Creation date: 20230516; ComponentLink3Description: 3_X-information; ClassName: SMALL; ECCN: EAR99; Operating temperature range: -55 ... +150 °C; ComponentLink2URL: https://www.diodes.com/assets/Package-Files/PowerDI3333-8.pdf; ComponentLink2Description: 3_X-information; ComponentLink1URL: https://www.diodes.com/assets/Datasheets/DMT6007LFG.pdf; Part Number: DMT6007LFG; RoHS: RoHS3 with exemption; Voltage: 60V; Package: POWERDI3333-8; Dimensions WxLxH: 3.3 x 3.3 x 0.8 mm; ComponentLink1Description: 1_Datasheet; Component Type: Transistor
footprint POWERDI3333-8 (POWER(R)DI3333-8 (Diodes Inc))
pins: 1 S, 2 S, 3 S, 4 G, 5 D, 6 D, 7 D, 8 D

## CMP-031-000041-4
designator Y?, comment value 26MHz  Manufacturer: ECS International  (hidden comment: XO_26M_ECS-2016MV-260-CN)
Oscillator XO 26MHz ±25ppm 15pF; Manufacturer: ECS; Manufacturer Part Number: ECS-2016MV-260-CN-TR; Tolerance: +/-25ppm; Sort order: 455; System: Discrete; Operating temperature range: -40 ... +85C; Dimensions WxLxH: 2 x 1.6mm x 0.85mm; Part Number: ECS-2016MV-260-CN; ComponentLink1Description: 1_Datasheet; ComponentLink1URL: https://ecsxtal.com/store/pdf/ECS-2016MV.pdf; Creation date: 15042024; Design Item ID: XO_26M_ECS-2016MV-260-CN; Source: UUDET_KOMPONENTIT.SchLib; ComponentLink2Description: 2_Product page; ComponentLink3Description: 3_X-information; ComponentLink4Description: 4_X-information; Component Type: Timing
footprint XTAL_2016_UN1Q (Murata XTAL 2.0 x 1.6mm)
pins: 1 Tri-state, 2 GND, 3 OUTPUT, 4 VDD (power)
text: XO 26MHz

## CMP-031-000057-6
designator N?, comment Manufacturer: RFMi  (hidden comment: SF2391E)
897.5 MHz SAW Filter, IL 2.5 dB; Sort order: 701; System: RF; HasBeenBuilt: MiniWing_01; Design Item ID: SF2391E; Part Number: SF2391E; ComponentLink1URL: https://www.rfmi.co/pdf/datasheet/SF2391E.pdf; Source: UUDET_KOMPONENTIT.SchLib; Operating temperature range: -20 ... +70C; ComponentLink3Description: 3_X-information; Package: 3030; ComponentLink4Description: 4_X-information; ComponentLink2Description: 2_Product page; ComponentLink1Description: 1_Datasheet; Dimensions WxLxH: 3 x 3 x 1.4mm; Creation date: 20231116; Manufacturer Part Number: SF2391E; Component Type: RF Discrete
footprint SM3030_6PIN (3x3mm 6 pin)
pins: 1 GND, 2 IN "50 ohm terminal", 3 GND, 4 GND, 5 OUT "50 ohm terminal", 6 GND

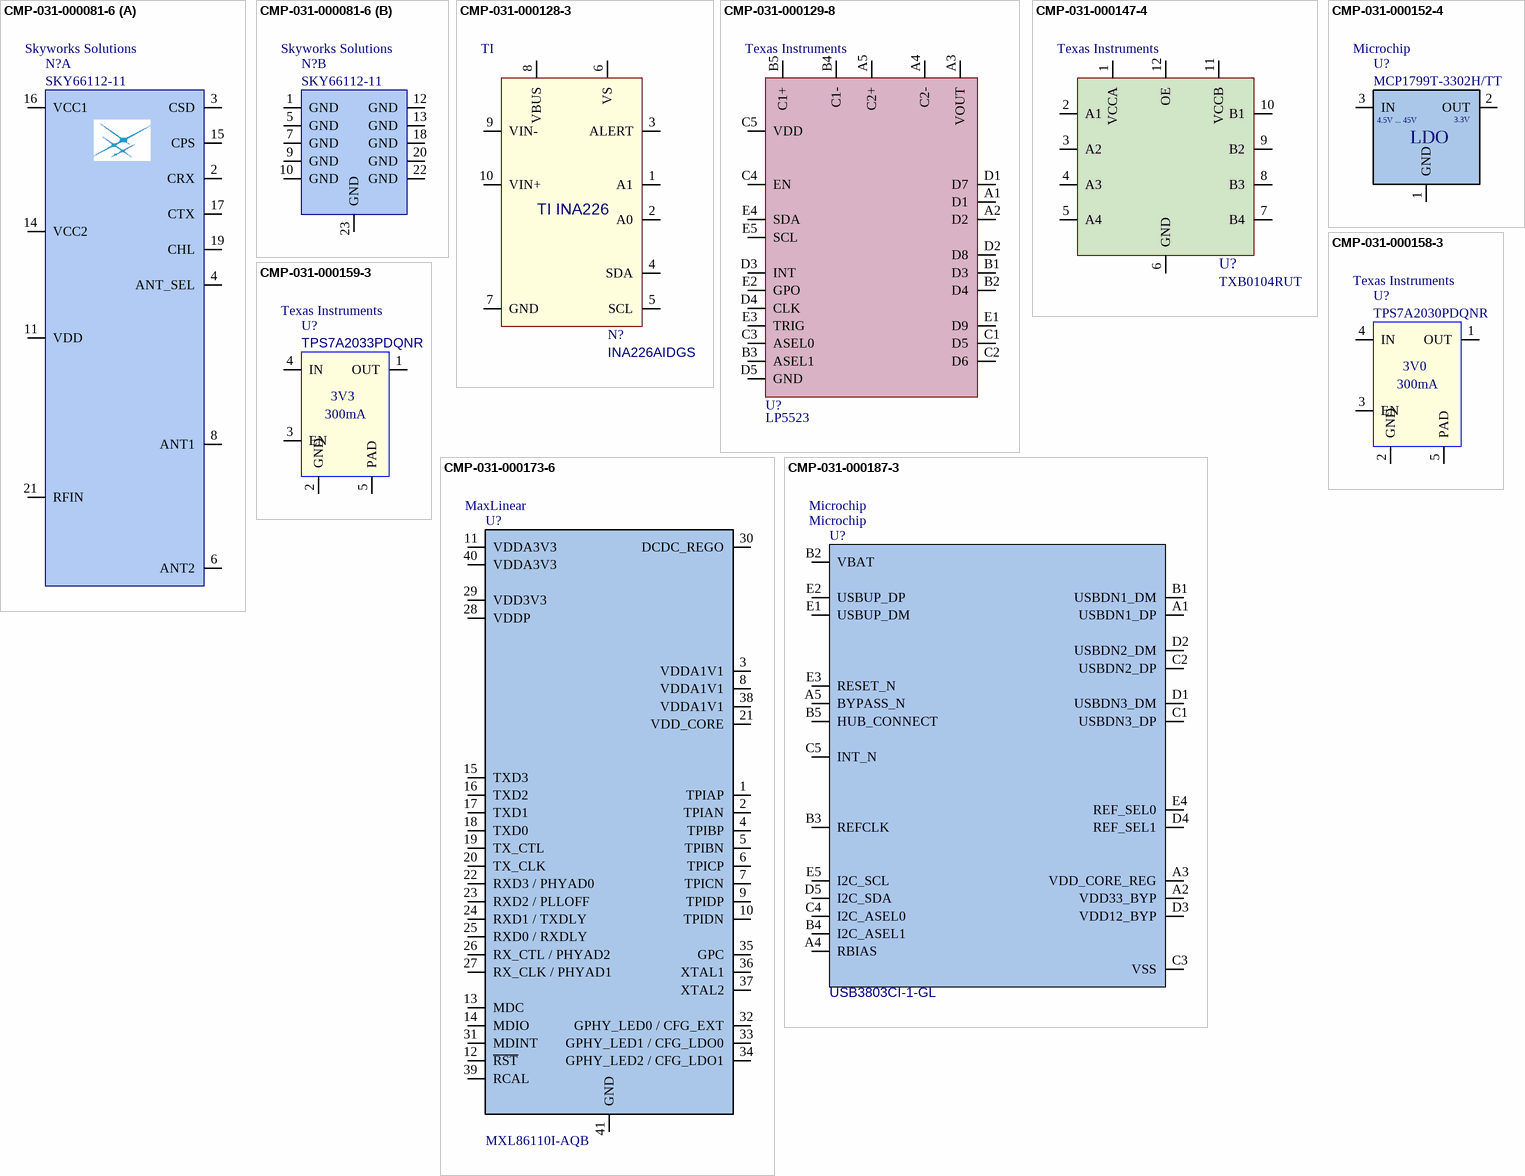
[diagram p11: symbols CMP-031-000081-6 to CMP-031-000187-3]

## CMP-031-000081-6
designator N?, comment Part Number: SKY66112-11  Manufacturer: Skyworks Solutions  (hidden comment: FEM-SKY66112-11)
2.4 GHz WLAN FRONT-END MODULE; Manufacturer: Skyworks; HasBeenBuilt: SALUKI_V3C_1; Sort order: 731; System: RF; ComponentLink1Description: 1_Datasheet; ComponentLink1URL: https://www.skyworksinc.com/en/Products/Front-end-Modules/SKY66112-11; ComponentLink2Description: 2_Product page; ComponentLink3Description: 3_X-information; ComponentLink4Description: 4_X-information; Creation Date: 20220301; Dimensions WxLxH: 3.5 x 3 x 1.0 mm; Operating temperature range: -40C ... +85C; Package: 22-SMD; ClassName: BIG; ECCN: 5A991.g; Design Item ID: FEM-SKY66112-11; Manufacturer Part Number: SKY66112-11; Component Type: RF Module
footprint FEM_SKY66112-11 (Skyworks Wifi 2.45GHz FEM)
part A pins: 2 CRX "Mode control", 3 CSD "Mode control", 4 ANT_SEL "Antenna switch control", 6 ANT2 "ANT2, 50 ohm", 8 ANT1 "ANT1, 50 ohm", 11 VDD (power) "Digital logic and RF switch supply", 14 VCC2 (power) "LNA supply voltage", 15 CPS, 16 VCC1 (power) "PA 1st stage and LNA supply", 17 CTX, 19 CHL, 21 RFIN "RFIN 50 ohm"
part B pins: 1 GND (power), 5 GND (power), 7 GND (power), 9 GND (power), 10 GND, 12 GND (power), 13 GND (power), 18 GND (power), 20 GND (power), 22 GND (power), 23 GND (power)

## CMP-031-000128-3
designator N?, comment Part Number: INA226AIDGS  Manufacturer: TI  (hidden comment: INA226)
INA226 current / power measurement circuit, I2C interface, +36V; Sort order: 445; HasBeenBuilt: Cmod2_01; System: IC; Operating temperature range: -40C ... +125C; Package: VSOP-10; Creation date: 20220509; ComponentLink1Description: 1_Datasheet; ComponentLink1URL: https://www.ti.com/lit/ds/symlink/ina226.pdf?ts=1662305220379; ComponentLink2Description: 2_Product_page; ComponentLink2URL: https://www.ti.com/lit/ml/mpds035c/mpds035c.pdf; Dimensions WxLxH: 3.1 x 5.05 x1.1 mm; Design Item ID: INA226; Source: UUDET_KOMPONENTIT.SchLib; ComponentLink4Description: 4_X-information; ComponentLink3Description: 3_X-information; Manufacturer Part Number: INA226AIDGS; Component Type: Power Supply
footprint INA226_VSOP10 (TI VSOP-10 for INA226/230)
pins: 1 A1 "ADDRESS PIN", 2 A0 "ADDRESS PIN", 3 ALERT "Multi-functional alert, open-drain output.", 4 SDA "Address pin. Connect to GND, SCL, SDA, or VS. Table 2 shows pin settings and corresponding addresses.", 5 SCL "Address pin. Connect to GND, SCL, SDA, or VS. Table 2 shows pin settings and corresponding addresses.", 6 VS (power) "Power supply, 2.7 V to 5.5 V", 7 GND (power), 8 VBUS "Bus voltage input.", 9 VIN-, 10 VIN+
text: TI INA226

## CMP-031-000129-8
designator U?, comment LP5523  Manufacturer: Texas Instruments
RGB LED Driver, 9ch (3xRGB) DSBGA(25); Part Number: LP5523TM/NOPB; HasBeenBuilt: Cmod2_01; Sort order: 451; System: IC; ComponentLink1Description: 1_Datasheet; ComponentLink1URL: https://www.ti.com/lit/ds/symlink/lp5523.pdf; ComponentLink2Description: 2_Product page; ComponentLink2URL: https://www.ti.com/product/LP5523?keyMatch=LP5523&tisearch=search-everything&usecase=GPN; ComponentLink3Description: 3_X-information; ComponentLink4Description: 4_X-information; Creation date: 20230210; Dimensions WxLxH: 2.26x2.26x0.675mm; Operating temperature range: -30 .... +85 °C; Package: DSBGA-25; Design Item ID: LP5523; Source: UUDET_KOMPONENTIT.SchLib; Manufacturer Part Number: LP5523TM/NOPB; Component Type: Amplifier & Driver
footprint BGA25P40_226X226X60_TI (BGA25 pitch 0.4mm)
pins: A1 D1 (power), A2 D2 (power), A3 VOUT (power), A4 C2- (power), A5 C2+ (power), B1 D3 (power), B2 D4 (power), B3 ASEL1 (power), B4 C1- (power), B5 C1+ (power), C1 D5 (power), C2 D6 (power), C3 ASEL0 (power), C4 EN (power), C5 VDD (power), D1 D7 (power), D2 D8 (power), D3 INT (power), D4 CLK (power), D5 GND (power), E1 D9 (power), E2 GPO (power), E3 TRIG (power), E4 SDA (power), E5 SCL (power)

## CMP-031-000147-4
designator U?, comment Manufacturer: Texas Instruments  (hidden comment: TXB0104RUT)
4-bit bidirectional level shifter; Manufacturer Part Number: TXB0104RUTR; System: IC; Sort order: 459; HasBeenBuilt: Saluki3_HW_SB_2; Package: UQFN-12; ComponentLink2URL: https://www.ti.com/product/TXB0104; Source: UUDET_KOMPONENTIT.SchLib; RoHS: RoHS3; Design Item ID: TXB0104RUT; ECCN: EAR99; ComponentLink4Description: 4_X-information; Dimensions WxLxH: 1.7x2.0x0.55 mm; ComponentLink2Description: 2_Product_page; Creation date: 20230523; Operating temperature range: -40 ... +85 °C; ComponentLink1Description: 1_Datasheet; ComponentLink3Description: 3_X-information; ComponentLink1URL: https://www.ti.com/lit/ds/symlink/txb0104.pdf?ts=1684839634258&ref_url=https%253A%252F%252Fwww.google.com%252F; Part Number: TXB0104RUT; Component Type: Logic
footprint UQFN-12_TI (UQFN-12 from Texas Instruments)
pins: 1 VCCA, 2 A1, 3 A2, 4 A3, 5 A4, 6 GND, 7 B4, 8 B3, 9 B2, 10 B1, 11 VCCB, 12 OE

## CMP-031-000152-4
designator U?, comment Part Number: MCP1799T-3302H/TT  Manufacturer: Microchip  (hidden comment: LDO_MCP1799)
LDO, Low Iq, Vin 35V, 80mA @ 3V3; Sort order: 457; Alternative component: MCP1799T-3302H/TTVAO (automotive); HasBeenBuilt: Cmod2_01; System: IC; Package: SOT-23; ComponentLink1Description: 1_Datasheet; ComponentLink1URL: https://ww1.microchip.com/downloads/aemDocuments/documents/APID/ProductDocuments/DataSheets/MCP1799-Data-Sheet-20006248B.pdf; Dimensions WxLxH: 3.05 x 2.64 x 1.05mm; Operating temperature range: -40 ... +150 °C; Creation date: 20220902; ClassName: BIG; Design Item ID: LDO_MCP1799; Source: UUDET_KOMPONENTIT.SchLib; ComponentLink2Description: 2_Product page; ComponentLink3Description: 3_X-information; ComponentLink4Description: 4_X-information; Manufacturer Part Number: MCP1799T-3302H/TT; Component Type: Power Supply
footprint SOT23_Microchip (SOT-23, 3 pins, 2.5 x 2.9 x 1.1mm for)
pins: 1 GND (power), 2 OUT (power), 3 IN (power)
text: 4.5V ... 45V; 3.3V; LDO

## CMP-031-000158-3
designator U?, comment Part Number: TPS7A2030PDQNR  Manufacturer: Texas Instruments  (hidden comment: TPS7A20_3V0)
LDO 3V0 fixed 300-mA, Ultra-Low-Noise, Low-IQ, High PSRR; Sort order: 451; System: IC; HasBeenBuilt: False; ComponentLink3Description: 3_X-information; ComponentLink2Description: 2_Product_page; ComponentLink1Description: 1_Datasheet; ComponentLink1URL: https://www.ti.com/lit/ds/symlink/tps7a20.pdf; ComponentLink2URL: https://www.ti.com/product/TPS7A20; Source: UUDET_KOMPONENTIT.SchLib; Package: X2SON; Creation date: 20231128; ComponentLink4Description: 4_X-information; Dimensions WxLxH: 1x1 mm; Design Item ID: TPS7A20_3V0; Operating temperature range: -40 ... +125C; Manufacturer Part Number: TPS7A2030PDQNR; Component Type: Power Supply
footprint X2SON4_DQN0004 (X2SON 1.05 x 1.05 x 0.4mm)
pins: 1 OUT (power) "Output of the regulator. There are no output capacitor requirements for stability.", 2 GND (power) "Ground", 3 EN, 4 IN (power) "Input supply", 5 PAD (power) "Ground"
text: 3V0; 300mA

## CMP-031-000159-3
designator U?, comment Part Number: TPS7A2033PDQNR  Manufacturer: Texas Instruments  (hidden comment: TPS7A20_3V3)
LDO 3V3 fixed 300-mA, Ultra-Low-Noise, Low-IQ, High PSRR; Sort order: 451; HasBeenBuilt: False; System: IC; Package: X2SON; ComponentLink1Description: 1_Datasheet; ComponentLink1URL: https://www.ti.com/lit/ds/symlink/tps7a20.pdf; Dimensions WxLxH: 1x1 mm; ComponentLink2Description: 2_Product_page; ComponentLink2URL: https://www.ti.com/product/TPS7A20; Operating temperature range: -40 ... +125C; Creation date: 04032024; Source: UUDET_KOMPONENTIT.SchLib; Design Item ID: TPS7A20_3V3; ComponentLink3Description: 3_X-information; ComponentLink4Description: 4_X-information; Manufacturer Part Number: TPS7A2033PDQNR; Component Type: Power Supply
footprint X2SON4_DQN0004 (X2SON 1.05 x 1.05 x 0.4mm)
pins: 1 OUT (power) "Output of the regulator. There are no output capacitor requirements for stability.", 2 GND (power) "Ground", 3 EN, 4 IN (power) "Input supply", 5 PAD (power) "Ground"
text: 3V3; 300mA

## CMP-031-000173-6
designator U?, comment Manufacturer: MaxLinear  (hidden comment: MXL86110I-AQB)
Ethernet PHY, RGMII, 1000BASE-T, 100BASE-TX, 10BASE-Te; Sort order: 501; HasBeenBuilt: False; System: IC; Package: QFN40; Operating temperature range: -40 .... +85 °C; ClassName: BIG; Creation Date: 26032024; ComponentLink1Description: 1_Datasheet; ComponentLink1URL: https://www.maxlinear.com/Document/index?id=23355&productId=14849; ComponentLink2Description: 2_Product_page; ComponentLink2URL: https://www.maxlinear.com/product/interface/ethernet/ethernet-transceivers-phy/mxl86110; ComponentLink3Description: 3_X-information; ComponentLink4Description: 4_X-information; Dimensions WxLxH: 5x5x1mm; Part Number: MXL86110I-AQB; Source: UUDET_KOMPONENTIT.SchLib; Design Item ID: MXL86110I-AQB; Manufacturer Part Number: MXL86110I-AQB; Component Type: Data Converter
footprint QFN40_5x5mm (MP6536)
pins: 1 TPIAP, 2 TPIAN, 3  VDDA1V1, 4 TPIBP, 5 TPIBN, 6 TPICP, 7 TPICN, 8  VDDA1V1, 9 TPIDP, 10 TPIDN, 11 VDDA3V3, 12 ~{RST}, 13 MDC, 14 MDIO, 15 TXD3, 16 TXD2, 17 TXD1, 18 TXD0, 19 TX_CTL, 20 TX_CLK, 21 VDD_CORE, 22 RXD3 / PHYAD0, 23 RXD2 / PLLOFF, 24 RXD1 / TXDLY, 25 RXD0 / RXDLY, 26 RX_CTL / PHYAD2, 27 RX_CLK / PHYAD1, 28 VDDP, 29 VDD3V3, 30 DCDC_REGO, 31 MDINT, 32 GPHY_LED0 / CFG_EXT, 33 GPHY_LED1 / CFG_LDO0, 34 GPHY_LED2 / CFG_LDO1, 35 GPC, 36 XTAL1, 37 XTAL2, 38  VDDA1V1, 39 RCAL, 40 VDDA3V3, 41 GND (power)

## CMP-031-000187-3
designator U?, comment Manufacturer: Microchip  (hidden comment: USB3803CI-1-GL)
USB 2.0 Hi-Speed Hub Controller; Manufacturer Part Number: USB3803CI-1-GL-TR; Sort order: 501; System: IC; ClassName: BIG; ComponentLink1Description: 1_Datasheet; ComponentLink1URL: https://ww1.microchip.com/downloads/aemDocuments/documents/UNG/ProductDocuments/DataSheets/00001691D.pdf; ComponentLink2Description: 2_Product page; ComponentLink2URL: https://www.microchip.com/en-us/product/USB3803#document-table; Creation date: 12042024; Dimensions WxLxH: 1.95x1.95x0.62; Operating temperature range: -40 ... +85 °C; Package: WLCS25; Part Number: USB3803CI-1-GL; Source: UUDET_KOMPONENTIT.SchLib; Design Item ID: USB3803CI-1-GL; ComponentLink3Description: 3_X-information; ComponentLink4Description: 4_X-information; Manufacturer Part Number: USB3803CI-1-GL; Component Type: Integrated Circuit
footprint BGA25P40_197X197X62_Microchip
pins: A1 USBDN1_DP, A2 VDD33_BYP, A3 VDD_CORE_REG, A4 RBIAS, A5 BYPASS_N, B1 USBDN1_DM, B2 VBAT, B3 REFCLK, B4 I2C_ASEL1, B5 HUB_CONNECT, C1 USBDN3_DP, C2 USBDN2_DP, C3 VSS, C4 I2C_ASEL0, C5 INT_N, D1 USBDN3_DM, D2 USBDN2_DM, D3 VDD12_BYP, D4 REF_SEL1, D5 I2C_SDA, E1 USBUP_DM, E2 USBUP_DP, E3 RESET_N, E4 REF_SEL0, E5 I2C_SCL

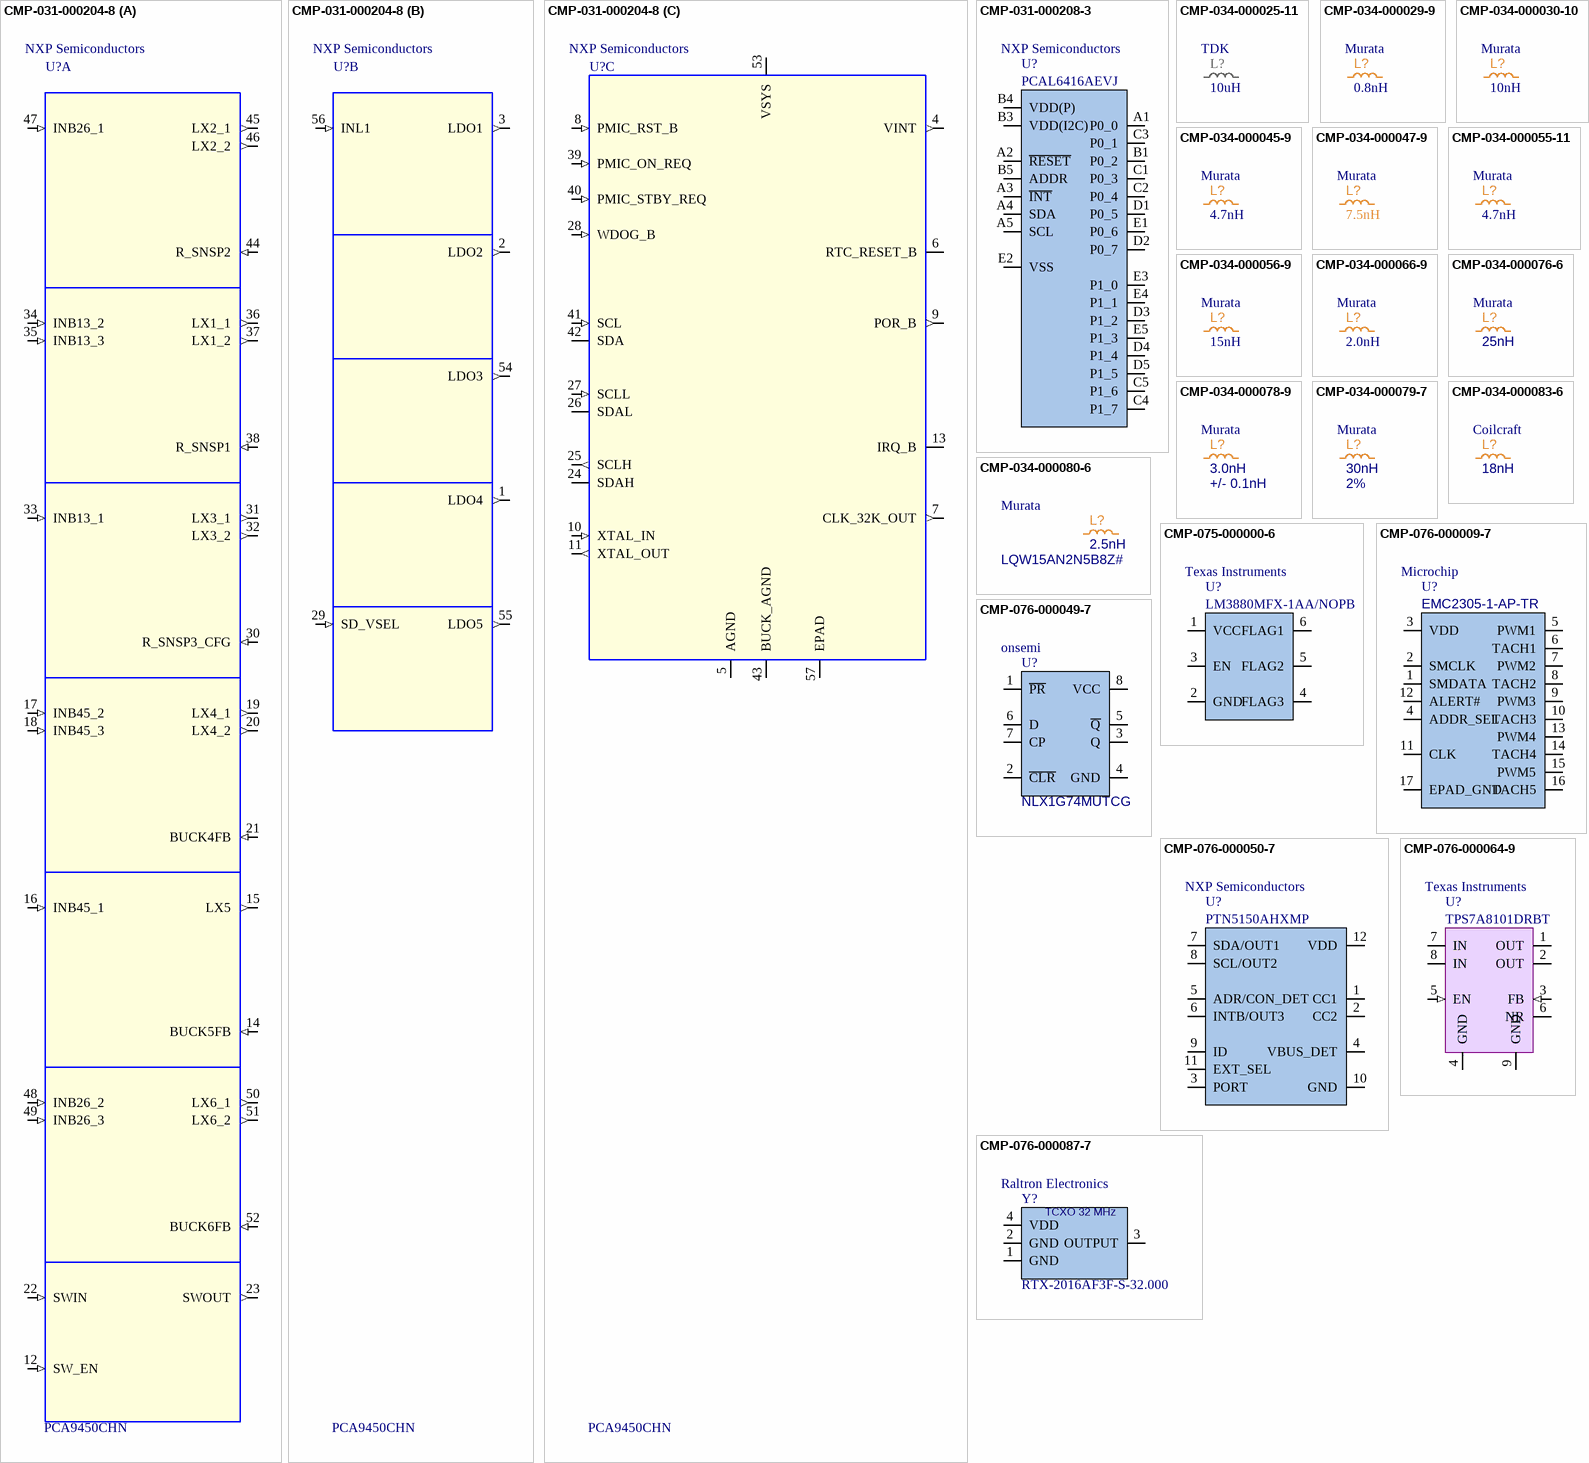
[diagram p12: symbols CMP-031-000204-8 to CMP-076-000087-7]

## CMP-031-000204-8
designator U?, comment Part Number: PCA9450CHN  Manufacturer: NXP Semiconductors  (hidden comment: PCA9450_HVQFN56P_A)
POWER MANAGEMENT 2.7-5.5V HVQFN56; Manufacturer Part Number: PCA9450CHNY; Sort order: 451; System: IC; ComponentLink1Description: 1_Datasheet; ComponentLink1URL: https://www.nxp.com/products/power-management/pmics-and-sbcs/pmics/power-management-ic-pmic-for-i-mx-8m-mini-nano-plus:PCA9450; ComponentLink2Description: 2_Product page; ComponentLink3Description: 3_X-information; ComponentLink4Description: 4_X-information; Creation date: 20240207; Dimensions WxLxH: 7.0x7.0x1.0; Manufacturer: NXP SEMICONDUCTORS; Operating temperature range: -40 .... +105 °C; Package: QFN56; Source: UUDET_KOMPONENTIT.SchLib; ClassName: BIG; Design Item ID: PCA9450CHN; Component Type: Power Supply
footprint QFN57P40_700X700X100NXP (QFN56 + pad NXP)
part A pins: 12 SW_EN (in), 14 BUCK5FB (in), 15 LX5 (out), 16 INB45_1 (in), 17 INB45_2 (in), 18 INB45_3 (in), 19 LX4_1 (out), 20 LX4_2 (out), 21 BUCK4FB (in), 22 SWIN (in), 23 SWOUT (out), 30 R_SNSP3_CFG (in), 31 LX3_1 (out), 32 LX3_2 (out), 33 INB13_1 (in), 34 INB13_2 (in), 35 INB13_3 (in), 36 LX1_1 (out), 37 LX1_2 (out), 38 R_SNSP1 (in), 44 R_SNSP2 (in), 45 LX2_1 (out), 46 LX2_2 (out), 47 INB26_1 (in), 48 INB26_2 (in), 49 INB26_3 (in), 50 LX6_1 (out), 51 LX6_2 (out), 52 BUCK6FB (in)
part B pins: 1 LDO4 (out), 2 LDO2 (out), 3 LDO1 (out), 29 SD_VSEL (in), 54 LDO3 (out), 55 LDO5 (out), 56 INL1 (in)
part C pins: 4 VINT (out), 5 AGND (power), 6 RTC_RESET_B (oc), 7 CLK_32K_OUT (out), 8 PMIC_RST_B (in), 9 POR_B (out), 10 XTAL_IN (in), 11 XTAL_OUT (out), 13 IRQ_B (oc), 24 SDAH (io), 25 SCLH (out), 26 SDAL (io), 27 SCLL (in), 28 WDOG_B (in), 39 PMIC_ON_REQ (in), 40 PMIC_STBY_REQ (in), 41 SCL (in), 42 SDA (io), 43 BUCK_AGND (power), 53 VSYS (power), 57 EPAD (power)

## CMP-031-000208-3
designator U?, comment Part Number: PCAL6416AEVJ  Manufacturer: NXP Semiconductors  (hidden comment: PCAL6416AEVJ_VFBGA24)
I/O Expander 16-Bit I²C, SMBus, 0.5mm pitch; Manufacturer: NXP; HasBeenBuilt: Saluki3S_1; Sort order: 501; System: IC; ComponentLink1Description: 1_Datasheet; ComponentLink1URL: https://www.nxp.com/docs/en/data-sheet/PCAL6416A.pdf; ComponentLink2Description: 2_Product page; Creation Date: 21122023; Dimensions WxLxH: 3.0 x 3.0 x  1.0mm; Operating temperature range: -40 .... +85 °C; Package: VFBGA24; ECCN: EAR99; Source: UUDET_KOMPONENTIT.SchLib; Design Item ID: PCAL6416AEVJ_VFBGA24; ComponentLink4Description: 4_X-information; ComponentLink3Description: 3_Product_page; RoHS: RoHS3; Manufacturer Part Number: PCAL6416AEVJ; Component Type: Integrated Circuit
footprint VFBGA24P50_300X300X100_NXP
pins: A1 P0_0, A2 ~{RESET}, A3 ~{INT}, A4 SDA, A5 SCL, B1 P0_2, B3 VDD(I2C) (power), B4 VDD(P) (power), B5 ADDR, C1 P0_3, C2 P0_4, C3 P0_1, C4 P1_7, C5 P1_6, D1 P0_5, D2 P0_7, D3 P1_2, D4 P1_4, D5 P1_5, E1 P0_6, E2 VSS (power), E3 P1_0, E4 P1_1, E5 P1_3

## CMP-034-000025-11
designator L?, comment value 10uH  Manufacturer: TDK  (hidden comment: IND_0603_10u_MLZ)
IND SHIELDED  MLZ1608M100WTD25; Sort order: 346; Tolerance: 10%; HasBeenBuilt: False; System: RLC; Package: 0603; Dimensions WxLxH: 1.6 x 0.8 x 0.8 +-0.15; Part Number: MLZ1608M100WTD25; ComponentLink1Description: 1_Datasheet; ComponentLink1URL: https://product.tdk.com/en/search/inductor/inductor/smd/info?part_no=MLZ1608M100WTD25; ComponentLink2Description: 2_Product page; ComponentLink3Description: 3_X-information; ComponentLink4Description: 4_X-information; Creation date: 20230111; Source: RLC_UN1Q.SchLib; Manufacturer Part Number: MLZ1608M100WTD25; Component Type: Inductor
footprint IND_0603_UN1Q (Chip Inductor, 1.6x0.8mm)
pins: 1, 2

## CMP-034-000029-9
designator L?, comment value 0.8nH  Manufacturer: Murata  (hidden comment: LQP03TN0N8B02)
IND_RF_MATCHING; Manufacturer Part Number: LQP03TN0N8B02D; System: RLC; Sort order: 206; HasBeenBuilt: TBD; Remark: RF matching, use part number; Tolerance: +/- 0.05nH; Operating temperature range: -55 ... +125C; ComponentLink2Description: 2_Product page; ComponentLink1Description: 1_Datasheet; ComponentLink4Description: 4_X-information; ClassName: SMALL; ComponentLink3Description: 3_X-information; Creation date: 20200101; Part Number: LQP03TN0N8B02; Source: RLC_UN1Q.SchLib; RoHS: RoHS3; Package: 0201; Component Type: Inductor
footprint IND_0201_UN1Q (Chip Resistor, 0.6x0.3mm, IPC High Density)
pins: 1, 2